# EAGLE library part PCA9536 (library ct-bot)
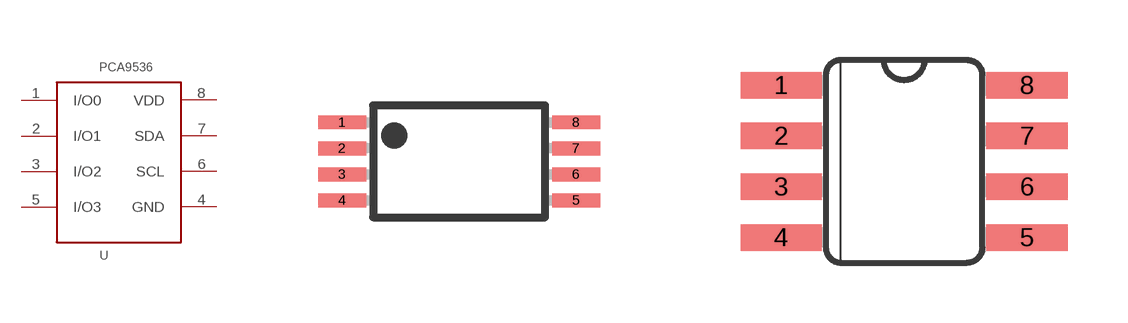
[diagram p17: symbol with the pads of TSSOP8; footprints TSSOP8, SOIC-8]

Designator prefix -

## PCA9536  [TSSOP8]
1  I/O0
2  I/O1
3  I/O2
4  GND  pwr
5  I/O3
6  SCL
7  SDA
8  VDD  pwr

## PCA9536D  [SOIC-8]
Pads as for TSSOP8

## Footprint TSSOP8 (pad centres in mm)
Plastic Small Outline
smd 1.2 x 0.35: 1 -2.925,0.975; 2 -2.925,0.325; 3 -2.925,-0.325; 4 -2.925,-0.975; 5 2.925,-0.975; 6 2.925,-0.325; 7 2.925,0.325; 8 2.925,0.975

## Footprint SOIC-8 (pad centres in mm)
smd 2.032 x 0.66: 1 -3.073,1.27; 2 -3.073,0; 3 -3.073,-1.27; 4 -3.073,-2.54; 5 3.073,-2.54; 6 3.073,-1.27; 7 3.073,0; 8 3.073,1.27